# Altium schematic symbol library LIB_ADAPTONE_EMILE_LAPLANTE.SchLib: 27 symbols
Pins are listed as number, name and electrical type; pins without a type are passive.

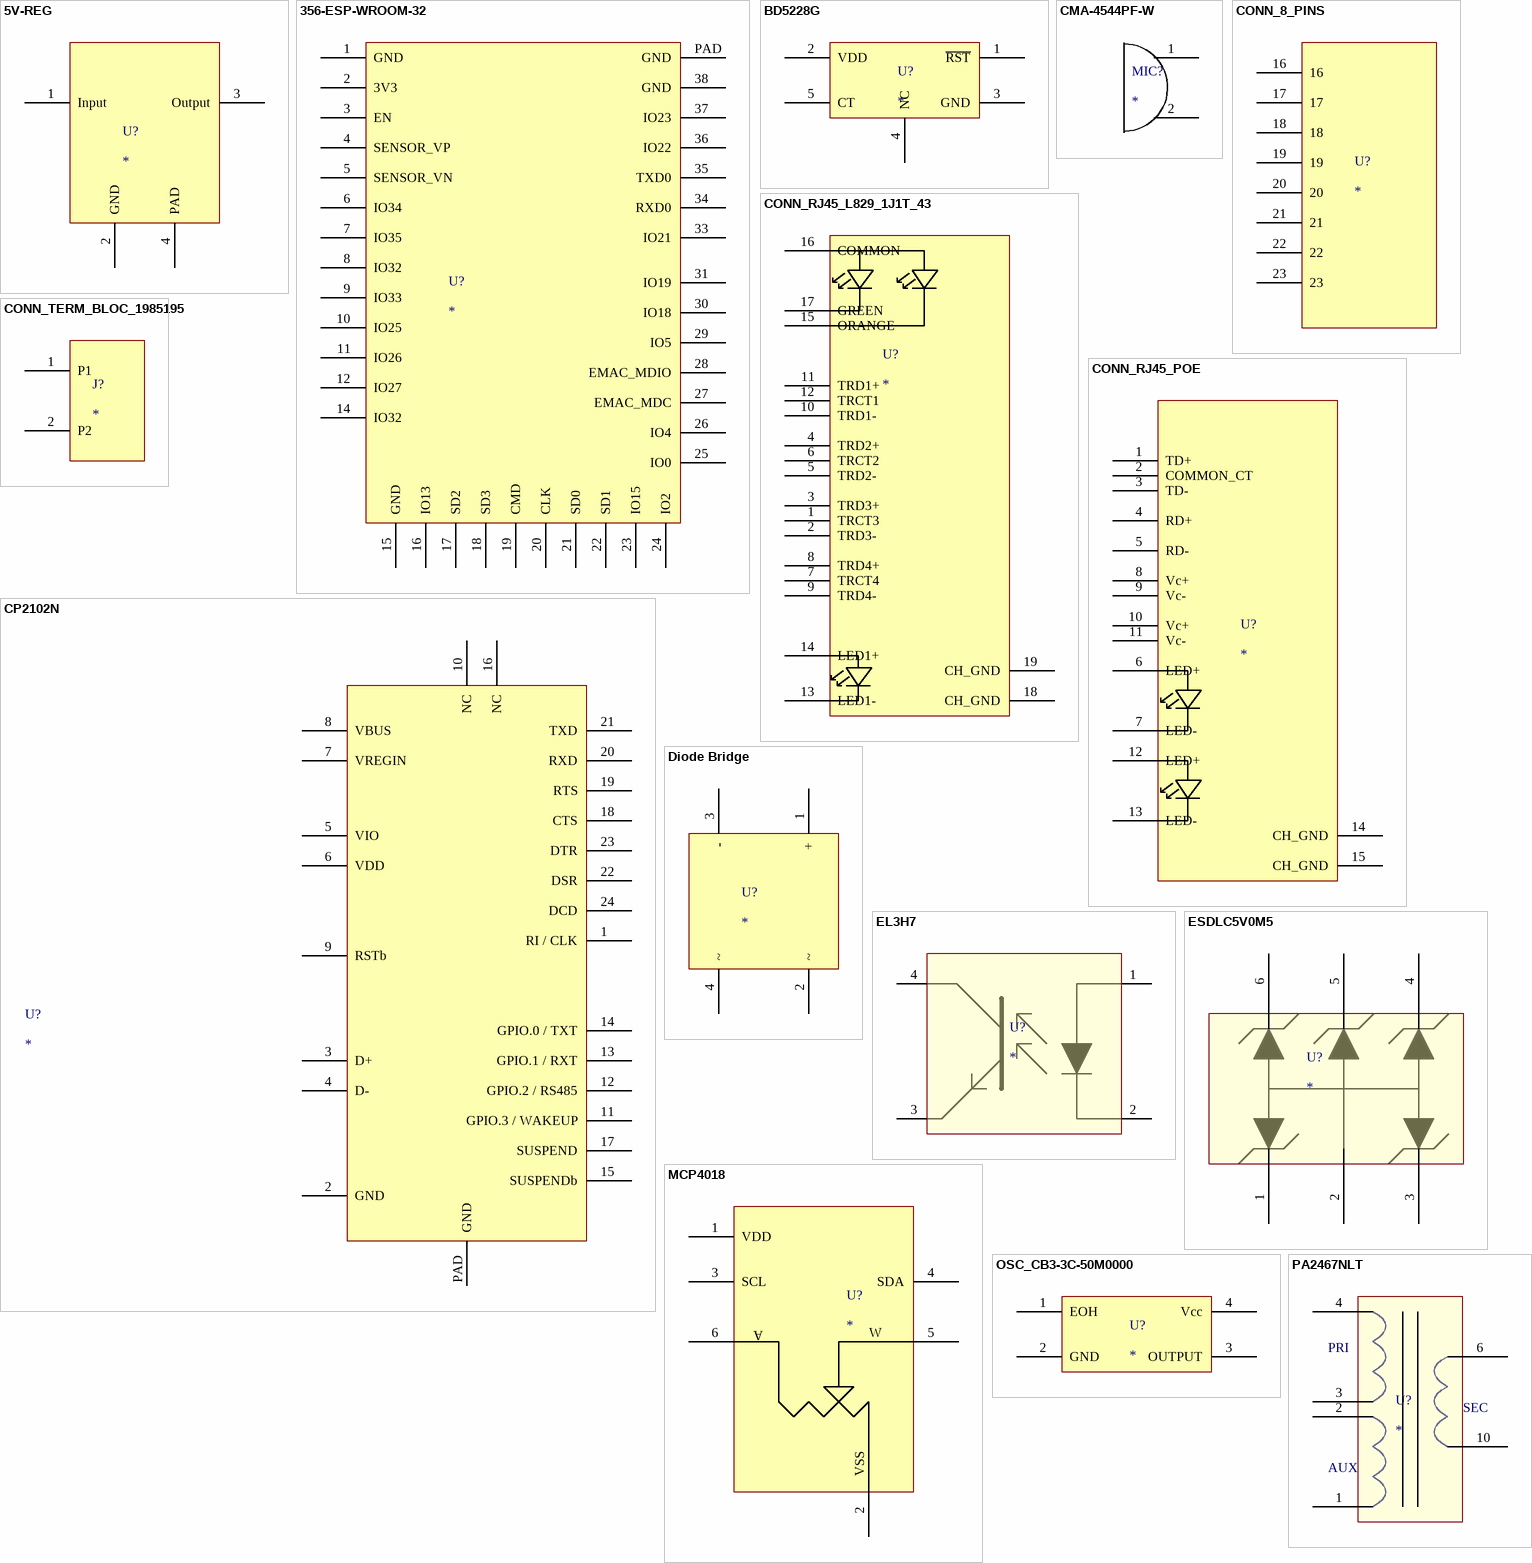
[diagram p0: symbols 5V-REG to PA2467NLT]

## 5V-REG
designator U?
Mfg Part Number: MC78M05CDTRKG; Mfg: ON Semiconductor; CreatedBy: Emile Laplante; HelpURL: https://www.digikey.ca/product-detail/en/on-semiconductor/MC78M05CDTRKG/MC78M05CDTRKGOSCT-ND/1139757; NI: *; Package: *; Power: *; Supplier: Digi-Key; Supplier Part Numer: MC78M05CDTRKGOSCT-ND; Temperature: *; Value: *; VerifiedBy: *; Voltage: *
footprint DPAK
pins: 1 Input, 2 GND, 3 Output, 4 PAD

## 356-ESP-WROOM-32
designator U?
Mfg Part Number: ESP32-WROOM-32; Mfg: Espressif Systems; CreatedBy: Emile Laplante; HelpURL: https://www.mouser.ca/ProductDetail/Espressif-Systems/ESP32-WROOM-32?qs=sGAEpiMZZMve4%2FbfQkoj%252BErywZNi%252BCNNpLVbrj2524g%3D; NI: *; Power: *; Supplier: Mouser; Supplier Part Numer: 356-ESP-WROOM-32; Temperature: *; Value: *; VerifiedBy: *; Voltage: *
pins: 1 GND (power), 2 3V3 (power), 3 EN (power), 4 SENSOR_VP (power), 5 SENSOR_VN (power), 6 IO34 (power), 7 IO35 (power), 8 IO32 (power), 9 IO33 (power), 10 IO25 (power), 11 IO26 (power), 12 IO27 (power), 14 IO32 (power), 15 GND (power), 16 IO13 (power), 17 SD2 (power), 18 SD3 (power), 19 CMD (power), 20 CLK (power), 21 SD0 (power), 22 SD1 (power), 23 IO15 (power), 24 IO2 (power), 25 IO0, 26 IO4, 27 EMAC_MDC, 28 EMAC_MDIO, 29 IO5, 30 IO18, 31 IO19, 33 IO21 (power), 34 RXD0 (power), 35 TXD0 (power), 36 IO22 (power), 37 IO23 (power), 38 GND (power), PAD GND (power)

## BD5228G
designator U?
Mfg Part Number: ESP32-WROOM-32; Mfg: Rohm Semiconductor; CreatedBy: Emile Laplante; HelpURL: https://www.digikey.ca/product-detail/en/rohm-semiconductor/BD5228G-TR/BD5228GTR-ND/722780; NI: *; Power: *; Supplier: digikey; Supplier Part Numer: BD5228GTR-ND; Temperature: *; Value: *; VerifiedBy: *; Voltage: *
footprint SSOP5
pins: 1 ~{RST} (power), 2 VDD (power), 3 GND (power), 4 NC (power), 5 CT (power)

## CMA-4544PF-W
designator MIC?
Mfg Part Number: CMA-4544PF-W; Mfg: CUI Inc.; CreatedBy: Emile Laplante; HelpURL: https://www.digikey.ca/product-detail/en/cui-inc/CMA-4544PF-W/102-1721-ND/1869981; NI: *; Package: *; Power: *; Supplier: Digi-Key; Supplier Part Numer: 102-1721-ND; Temperature: *; Value: *; VerifiedBy: *; Voltage: *
footprint MIC
pins: 1, 2

## CONN_8_PINS
designator U?
Mfg Part Number: L829-1J1T-43; Mfg: Bel Fuse Inc.; CreatedBy: Emile Laplante; HelpURL: https://www.digikey.ca/products/en?keywords=L829-1J1T-43; NI: *; Package: RJ45; Power: *; Supplier: Digikey; Supplier Part Numer: 380-1110-ND; Temperature: *; Value: *; VerifiedBy: *; Voltage: *
footprint L829-1J1T-43
pins: 16, 17, 18, 19, 20, 21, 22, 23

## CONN_RJ45_L829_1J1T_43
designator U?
Mfg Part Number: L829-1J1T-43; Mfg: Bel Fuse Inc.; CreatedBy: Emile Laplante; HelpURL: https://www.digikey.ca/products/en?keywords=L829-1J1T-43; NI: *; Package: RJ45; Power: *; Supplier: Digikey; Supplier Part Numer: 380-1110-ND; Temperature: *; Value: *; VerifiedBy: *; Voltage: *
footprint L829-1J1T-43
pins: 1 TRCT3 (power), 2 TRD3- (power), 3 TRD3+ (power), 4 TRD2+ (power), 5 TRD2- (power), 6 TRCT2 (power), 7 TRCT4 (power), 8 TRD4+ (power), 9 TRD4- (power), 10 TRD1- (power), 11 TRD1+ (power), 12 TRCT1 (power), 13 LED1-, 14 LED1+, 15 ORANGE, 16 COMMON, 17 GREEN, 18 CH_GND, 19 CH_GND

## CONN_RJ45_POE
designator U?
Mfg Part Number: SI-52003-F; Mfg: Stewart Connector; CreatedBy: Emile Laplante; HelpURL: https://www.digikey.ca/product-detail/en/stewart-connector/SI-52003-F/380-1119-ND/1635087; NI: *; Package: RJ45; Power: *; Supplier: Digikey; Supplier Part Numer: 380-1119-ND; Temperature: *; Value: *; VerifiedBy: *; Voltage: *
pins: 1 TD+ (power), 2 COMMON_CT (power), 3 TD- (power), 4 RD+ (power), 5 RD- (power), 6 LED+, 7 LED-, 8 Vc+ (power), 9 Vc- (power), 10 Vc+ (power), 11 Vc- (power), 12 LED+, 13 LED-, 14 CH_GND, 15 CH_GND

## CONN_TERM_BLOC_1985195
designator J?
Mfg Part Number: 1985195; Mfg: Phoenix Contact; CreatedBy: Emile Laplante; HelpURL: https://www.digikey.ca/product-detail/en/phoenix-contact/1985195/277-1622-ND/568659; NI: *; Package: RJ45; Power: *; Supplier: Digikey; Supplier Part Numer: 277-1622-ND; Temperature: *; Value: *; VerifiedBy: *; Voltage: *
footprint TERM BLOCK
pins: 1 P1, 2 P2

## CP2102N
designator U?
Mfg Part Number: CP2102N-A01-GQFN24R; Mfg: Silicon Labs; CreatedBy: Emile Laplante; HelpURL: https://www.digikey.ca/product-detail/en/silicon-labs/CP2102N-A01-GQFN24R/336-4737-1-ND/8610993; NI: *; Power: *; Supplier: digikey; Supplier Part Numer: 336-4737-1-ND; Temperature: *; Value: *; VerifiedBy: *; Voltage: *
footprint 24-QFN
pins: 1 RI / CLK (power), 2 GND (power), 3 D+ (power), 4 D- (power), 5 VIO (power), 6 VDD (power), 7 VREGIN (power), 8 VBUS (power), 9 RSTb (power), 10 NC (power), 11 GPIO.3 / WAKEUP (power), 12 GPIO.2 / RS485 (power), 13 GPIO.1 / RXT (power), 14 GPIO.0 / TXT (power), 15 SUSPENDb (power), 16 NC (power), 17 SUSPEND (power), 18 CTS (power), 19 RTS (power), 20 RXD (power), 21 TXD (power), 22 DSR (power), 23 DTR (power), 24 DCD (power), PAD GND (power)

## Diode Bridge
designator U?
Mfg Part Number: ABS210-13; Mfg: Diodes Incorporated; CreatedBy: Emile Laplante; HelpURL: https://www.digikey.ca/product-detail/en/on-semiconductor/MC78M05CDTRKG/MC78M05CDTRKGOSCT-ND/1139757; NI: *; Package: *; Power: *; Supplier: digikey; Supplier Part Numer: ABS210-13DICT-ND; Temperature: *; Value: *; VerifiedBy: *; Voltage: *
footprint 4-SOPA
pins: 1 +, 2 ~, 3 -, 4 ~

## EL3H7
designator U?
TVS DIODE 5.25V 17V SOT23-6; Mfg Part Number: EL3H7(B)(TA)-VG; Mfg: Everlight Electronics Co Ltd; CreatedBy: Emile Laplante; HelpURL: https://www.digikey.ca/product-detail/en/everlight-electronics-co-ltd/EL3H7-B-TA-VG/1080-1197-2-ND/2675688; NI: *; Package: *; Power: *; Supplier: Digi-Key; Supplier Part Numer: 1080-1197-2-ND; Temperature: *; Value: *; VerifiedBy: *; Voltage: *
pins: 1, 2, 3, 4

## ESDLC5V0M5
designator U?
TVS DIODE 5.25V 17V SOT23-6; Mfg Part Number: USBLC6-2SC6; Mfg: STMicroelectronics; CreatedBy: Emile Laplante; HelpURL: https://www.digikey.ca/product-detail/en/stmicroelectronics/USBLC6-2SC6/497-5235-1-ND/1121688?utm_adgroup=Circuit+Protection&mkwid=s0ppeewL7&pcrid=87194116385&pkw=&pmt=b&pdv=c&productid=&slid=&gclid=CjwKCAjw4NrpBRBsEiwAUcLcDNQgq04tCT7V_ltqca1_7K0mXBX7kE7yGsg9_XCY2KLJWZ-Y93zq1BoCPw0QAvD_BwE; NI: *; Package: *; Power: *; Supplier: Digi-Key; Supplier Part Numer: 497-5235-1-ND; Temperature: *; Value: *; VerifiedBy: *; Voltage: *
footprint SOT563
pins: 1, 2, 3, 4, 5, 6

## MCP4018
designator U?
Mfg Part Number: MCP4018T-503E/LT; Mfg: Microchip Technology; CreatedBy: Emile Laplante; HelpURL: https://www.digikey.ca/product-detail/en/microchip-technology/MCP4018T-503E-LT/MCP4018T-503E-LTCT-ND/2060154; NI: *; Power: *; Supplier: digikey; Supplier Part Numer: MCP4018T-503E/LTCT-ND; Temperature: *; Value: *; VerifiedBy: *; Voltage: *
footprint 6-TSSOP
pins: 1 VDD, 2 VSS, 3 SCL, 4 SDA, 5 W, 6 A

## OSC_CB3-3C-50M0000
designator U?
Mfg Part Number: CB3-3C-50M0000; Mfg: CTS-Frequency Controls; CreatedBy: Emile Laplante; HelpURL: https://www.digikey.ca/product-detail/en/rohm-semiconductor/BD5228G-TR/BD5228GTR-ND/722780; NI: *; Power: *; Supplier: digikey; Supplier Part Numer: CTX283CT-ND; Temperature: *; Value: *; VerifiedBy: *; Voltage: *
footprint OSC_50MHZ
pins: 1 EOH (power), 2 GND (power), 3 OUTPUT (power), 4 Vcc (power)

## PA2467NLT
designator U?
Mfg Part Number: PA2467NLT; Mfg: Pulse Electronics Power; CreatedBy: Emile Laplante; HelpURL: https://www.digikey.ca/product-detail/en/pulse-electronics-power/PA2467NLT/553-3820-2-ND/5174415; NI: *; Power: *; Supplier: Digikey; Supplier Part Numer: 553-3820-2-ND; Temperature: *; Value: *; VerifiedBy: *; Voltage: *
pins: 1, 2, 3, 4, 6, 10
text: PRI; SEC; AUX

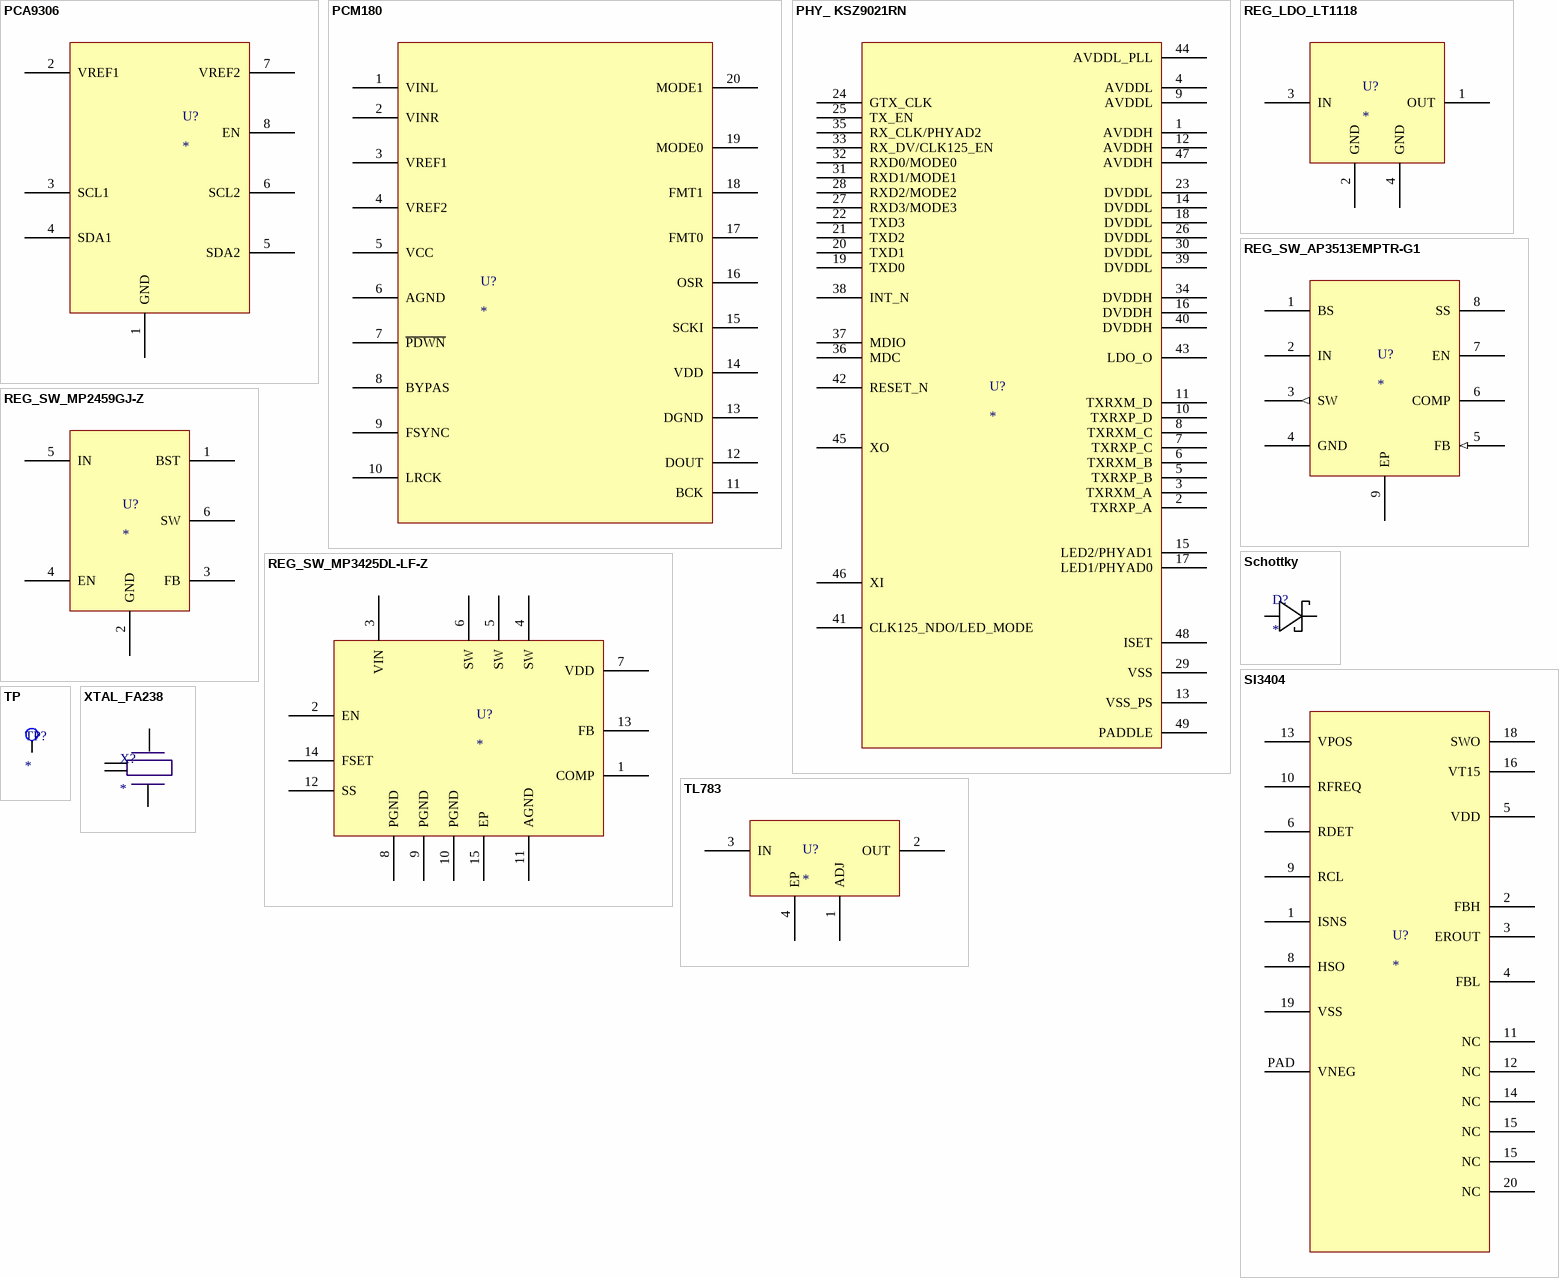
[diagram p1: symbols PCA9306 to XTAL_FA238]

## PCA9306
designator U?
Mfg Part Number: PCA9306DQER; Mfg: Txas Instruments; CreatedBy: Emile Laplante; HelpURL: https://www.digikey.ca/product-detail/en/texas-instruments/PCA9306DQER/296-27957-1-ND/2446266; NI: *; Power: *; Supplier: digikey; Supplier Part Numer: 296-27957-1-ND; Temperature: *; Value: *; VerifiedBy: *; Voltage: *
footprint 8-XFDFN
pins: 1 GND, 2 VREF1, 3 SCL1, 4 SDA1, 5 SDA2, 6 SCL2, 7 VREF2, 8 EN

## PCM180
designator U?
Mfg Part Number: PCM1802DBR; Mfg: Texas Instruments; CreatedBy: Emile Laplante; HelpURL: https://www.digikey.ca/product-detail/en/texas-instruments/PCM1802DBR/296-26304-1-ND/2254955; NI: *; Power: *; Supplier: digikey; Supplier Part Numer: 296-26304-1-ND; Temperature: *; Value: *; VerifiedBy: *; Voltage: *
footprint 20-SSOP
pins: 1 VINL, 2 VINR, 3 VREF1, 4 VREF2, 5 VCC, 6 AGND, 7 ~{PDWN}, 8 BYPAS, 9 FSYNC, 10 LRCK, 11 BCK, 12 DOUT, 13 DGND, 14 VDD, 15 SCKI, 16 OSR, 17 FMT0, 18 FMT1, 19 MODE0, 20 MODE1

## PHY_ KSZ9021RN
designator U?
Mfg Part Number: KSZ9021RN; Mfg: Microchip Technology; CreatedBy: Emile Laplante; HelpURL: https://www.digikey.ca/product-detail/en/microchip-technology/KSZ9021RN/576-3637-ND/2184487; NI: *; Package: 48-VFQFN Exposed Pad; Power: *; Supplier: Digikey; Supplier Part Numer: 576-3637-ND; Temperature: *; Value: *; VerifiedBy: *; Voltage: *
footprint PHY_KSZ9021RN (QFN, 48-Leads, Body 7,00x7,00mm, Pitch 0,50mm, Thermal Pad 5,10x5,10mm, IPC Medium Density)
pins: 1 AVDDH, 2 TXRXP_A (power), 3 TXRXM_A (power), 4 AVDDL, 5 TXRXP_B (power), 6 TXRXM_B (power), 7 TXRXP_C (power), 8 TXRXM_C (power), 9 AVDDL, 10 TXRXP_D (power), 11 TXRXM_D (power), 12 AVDDH, 13 VSS_PS, 14 DVDDL, 15 LED2/PHYAD1 (power), 16 DVDDH, 17 LED1/PHYAD0 (power), 18 DVDDL, 19 TXD0 (power), 20 TXD1 (power), 21 TXD2 (power), 22 TXD3 (power), 23 DVDDL, 24 GTX_CLK (power), 25 TX_EN (power), 26 DVDDL, 27 RXD3/MODE3 (power), 28 RXD2/MODE2 (power), 29 VSS, 30 DVDDL, 31 RXD1/MODE1 (power), 32 RXD0/MODE0 (power), 33 RX_DV/CLK125_EN (power), 34 DVDDH, 35 RX_CLK/PHYAD2 (power), 36 MDC (power), 37 MDIO (power), 38 INT_N (power), 39 DVDDL, 40 DVDDH, 41 CLK125_NDO/LED_MODE (power), 42 RESET_N (power), 43 LDO_O, 44 AVDDL_PLL, 45 XO (power), 46 XI (power), 47 AVDDH, 48 ISET, 49 PADDLE

## REG_LDO_LT1118
designator U?
Mfg Part Number: LT1118CST-2.5#PBF; Mfg: Linear Technology/Analog Devices; CreatedBy: Emile Laplante; HelpURL: https://www.digikey.ca/product-detail/en/texas-instruments/LP3985IM5X-2.5-NOPB/LP3985IM5X-2.5-NOPBCT-ND/3527410; NI: *; Package: SOT-223-3; Power: *; Supplier: Digikey; Supplier Part Numer: LT1118CST-2.5#PBF-ND; Temperature: *; Value: *; VerifiedBy: *; Voltage: *
footprint SOT-223-3
pins: 1 OUT, 2 GND, 3 IN, 4 GND

## REG_SW_AP3513EMPTR-G1
designator U?
Mfg Part Number: AP3513EMPTR-G1; Mfg: Diodes Incorporated; CreatedBy: Emile Laplante; HelpURL: https://www.digikey.ca/product-detail/en/diodes-incorporated/AP3513EMPTR-G1/AP3513EMPTR-G1DICT-ND/4505181; NI: *; Power: *; Supplier: Digikey; Supplier Part Numer: AP3513EMPTR-G1DICT-ND; Temperature: *; Value: *; VerifiedBy: *; Voltage: *
footprint L829-1J1T-43
footprint AP3513EMPTR-G1 (SW REG)
footprint AP3513EMPTR-G1 (SW REG)
footprint AP3513EMPTR-G1 (SW REG)
pins: 1 BS, 2 IN (power), 3 SW (out), 4 GND, 5 FB (in), 6 COMP, 7 EN, 8 SS, 9 EP

## REG_SW_MP2459GJ-Z
designator U?
Mfg Part Number: MP2459GJ-Z; Mfg: Monolithic Power Systems Inc.; CreatedBy: Emile Laplante; HelpURL: https://www.digikey.ca/product-detail/en/monolithic-power-systems-inc/MP2459GJ-Z/1589-1895-1-ND/5292061; NI: *; Package: *; Power: *; Supplier: Digikey; Supplier Part Numer: 1589-1895-1-ND; Temperature: *; Value: *; VerifiedBy: *; Voltage: *
footprint MP2459GJ-Z
pins: 1 BST, 2 GND, 3 FB, 4 EN, 5 IN, 6 SW

## REG_SW_MP3425DL-LF-Z
designator U?
Mfg Part Number: MP3425DL-LF-Z; Mfg: Monolithic Power Systems Inc.; CreatedBy: Emile Laplante; HelpURL: https://www.digikey.ca/product-detail/en/monolithic-power-systems-inc/MP3425DL-LF-Z/1589-1643-1-ND/9433409; NI: *; Power: *; Supplier: Digikey; Supplier Part Numer: 1589-1643-1-ND; Temperature: *; Value: *; VerifiedBy: *; Voltage: *
footprint 14-VFDFN Exposed Pad
pins: 1 COMP, 2 EN, 3 VIN, 4 SW, 5 SW, 6 SW, 7 VDD, 8 PGND, 9 PGND, 10 PGND, 11 AGND, 12 SS, 13 FB, 14 FSET, 15 EP

## Schottky
designator D?
CreatedBy: Emile Laplante; HelpURL: *; Mfg: *; Mfg Part Number: *; NI: *; Package: *; Power: *; Supplier: *; Supplier Part Numer: *; Temperature: *; Value: *; VerifiedBy: *; Voltage: *
footprint SOD-123
pins: 1 anode, 2 cathode

## SI3404
designator U?
Mfg Part Number: SI3404-A-GM; Mfg: Silicon Labs; CreatedBy: Emile Laplante; HelpURL: https://www.digikey.ca/product-detail/en/silicon-labs/SI3404-A-GM/336-4270-ND/7897442; NI: *; Package: 20-VFQFN Exposed Pad; Power: *; Supplier: Digikey; Supplier Part Numer: 336-4270-ND; Temperature: *; Value: *; VerifiedBy: *; Voltage: *
footprint 20-VFQFN Exposed Pad (POE_REG)
pins: 1 ISNS (power), 2 FBH (power), 3 EROUT (power), 4 FBL (power), 5 VDD (power), 6 RDET (power), 8 HSO (power), 9 RCL (power), 10 RFREQ (power), 11 NC (power), 12 NC (power), 13 VPOS (power), 14 NC (power), 15 NC (power), 15 NC (power), 16 VT15 (power), 18 SWO (power), 19 VSS (power), 20 NC (power), PAD VNEG (power)

## TL783
designator U?
Mfg Part Number: TL783CKTTR; Mfg: Texas Instruments; CreatedBy: Emile Laplante; HelpURL: https://www.digikey.ca/product-detail/en/texas-instruments/TL783CKTTR/296-20778-1-ND/1204637; NI: *; Package: *; Power: *; Supplier: Digikey; Supplier Part Numer: 296-20778-1-ND; Temperature: *; Value: *; VerifiedBy: *; Voltage: *
footprint TL783 (TO-263-4)
pins: 1 ADJ, 2 OUT, 3 IN, 4 EP

## TP
designator TP?
pins: 1

## XTAL_FA238
designator X?
Mfg Part Number: FA-238 25.0000MB-K3; Mfg: EPSON; Value: 25.00 MHz; CreatedBy: Emile Laplante; HelpURL: https://www.digikey.ca/product-detail/en/epson/FA-238-25.0000MB-K3/SER3692CT-ND/2403465; NI: *; Package: 40-WFQFN Exposed Pad; Power: *; Supplier: Digikey; Supplier Part Numer: SER3692CT-ND; Temperature: -40 C to 125 C; VerifiedBy: *; Voltage: *
footprint XTAL_FA238
pins: 1, 2, 3, 4